# Altium footprint library Симисторы.PcbLib: 6 footprints
Each footprint in its own frame and in the unit in brackets; x right, y up, seen from the top. Pads: shape width x height; smd on the part's side, far side on the other; paste and mask are expansions set on the pad; w line width, h text height; cw(c..) or ccw(c..) is an arc to the next point about the centre after c.
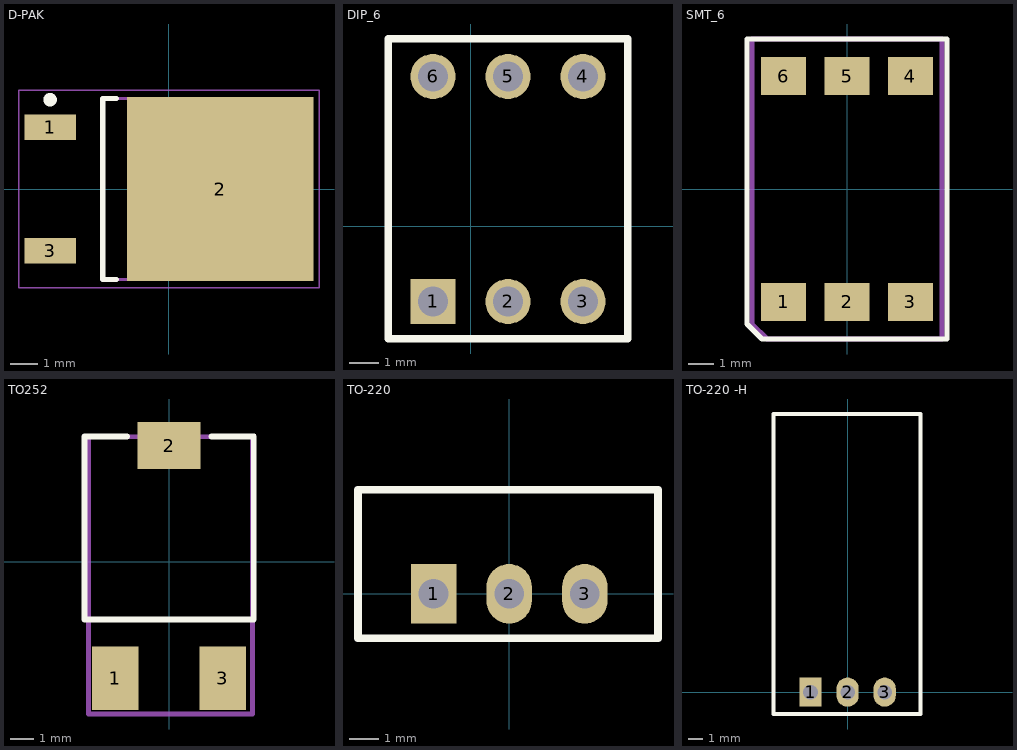
[diagram p0: the footprints below, top view; thin cyan lines are the x and y axes]

## D-PAK [mm] "D-PAK"
height 2.38
pads (3):
  rect 1.9x0.95 smd: 1(-4.4,2.28) 3(-4.4,-2.28)
  rect 6.9x6.8 smd: 2(1.9,0)
Top Overlay:
  circle w0.25: c-4.4,3.305 r0.125
  lines w0.2: -1.95,-3.35 -2.45,-3.35 -2.45,3.35 -1.95,3.35
Mechanical 13:
  lines w0.1: -2.45,-3.35 3.75,-3.35 3.75,3.35 -2.45,3.35 -2.45,-3.35
Mechanical 15:
  lines w0.05: -5.55,-3.65 5.55,-3.65 5.55,3.65 -5.55,3.65 -5.55,-3.65
  lines w0.1: -0.5,0 0.5,0 ; 0,-0.5 0,0.5
3D body "D-PAK TO252AA.step": height 2.3, standoff -0.01, extent -4.85,-3.302 4.85,3.278

## DIP_6 [mil]
pads (6):
  rect 60x60 hole 39.37: 1(-50,-100)
  round 60 hole 39.37: 2(50,-100) 3(150,-100) 4(150,200) 5(50,200) 6(-50,200)
Top Overlay:
  lines w10: -110,-150 -110,250 210,250 210,-150 -110,-150
3D body "DIP6.step": height 169.69, standoff -129.13, extent -108.11,-107.48 210,207.48

## SMT_6 [mm]
pads (6):
  rect 1.787x1.52 smd: 1(-2.54,-4.51) 2(0,-4.51) 3(2.54,-4.51) 4(2.54,4.51) 5(0,4.51) 6(-2.54,4.51)
Top Overlay:
  lines w0.2: -4,-5.4 -4,6 4,6 4,-6 -3.4,-6 -4,-5.4
Mechanical 7:
  lines w0.2: -3.81,-5.39 -3.2,-6 3.81,-6 3.81,6 -3.81,6 -3.81,-5.39
  text ".Designator" at 0,-2.54 h1.52

## TO252 [mm]
pads (3):
  rect 2x2.7 smd: 1(-2.29,-4.95) 3(2.29,-4.95)
  rect 2.7x2 smd: 2(0,4.95)
Top Overlay:
  lines w0.254: -1.79,5.35 -3.59,5.35 -3.59,-2.45 3.61,-2.45 3.61,5.35 ; 1.81,5.35 3.61,5.35 ; 3.61,5.35 3.61,5.35
Mechanical 7:
  lines w0.2: -3.429,-6.477 3.556,-6.477 3.556,5.334 -3.429,5.334 -3.429,-6.477
  text ".Designator" at -3.048,-0.127 h1.52
3D body "TO252.STEP": height 2.37, standoff -0.03, extent -3.357,-5.048 3.377,5.052

## TO-220 [mm]
pads (3):
  rect 1.524x2 hole 1: 1(-2.54,0)
  oval 1.524x2 hole 1: 2(0,0) 3(2.54,0)
Top Overlay:
  lines w0.254: -5.08,-1.5 -5.08,3.5 5,3.5 5,-1.5 -5.08,-1.5
3D body "TO-220HS.step": height 18.54, standoff -3.81, extent -5.08,-1.397 5.08,3.175

## TO-220 -H [mm]
pads (3):
  rect 1.524x2 hole 1: 1(-2.54,0)
  oval 1.524x2 hole 1: 2(0,0) 3(2.54,0)
Top Overlay:
  lines w0.254: -5.08,-1.5 5,-1.5 5,19.05 -5.08,19.05 -5.08,-1.5
3D body "TO-220-H.step": height 4.2, standoff -3, extent -5.08,-0.504 5.08,18.986